# EAGLE library part MOD_FLASH (library memories)
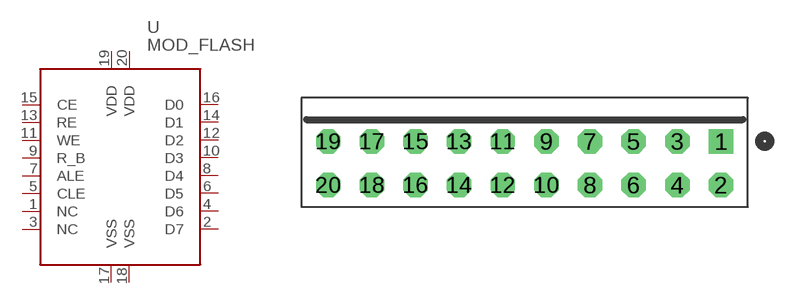
[diagram p3: symbol with the pads of MOD_FLASH; footprint MOD_FLASH]

Designator prefix -

## MOD_FLASH  [MOD_FLASH]
1  NC
2  D7
3  NC
4  D6
5  CLE
6  D5
7  ALE
8  D4
9  R_B
10  D3
11  WE
12  D2
13  RE
14  D1
15  CE
16  D0
17  VSS
18  VSS
19  VDD
20  VDD

## Footprint MOD_FLASH (pad centres in mm)
drill 0.6 pad 1.422 square: 1 11.43,3.81
drill 0.6 pad 1.422 octagon: 2 11.43,1.27; 3 8.89,3.81; 4 8.89,1.27; 5 6.35,3.81; 6 6.35,1.27; 7 3.81,3.81; 8 3.81,1.27; 9 1.27,3.81; 10 1.27,1.27; 11 -1.27,3.81; 12 -1.27,1.27; 13 -3.81,3.81; 14 -3.81,1.27; 15 -6.35,3.81; 16 -6.35,1.27; 17 -8.89,3.81; 18 -8.89,1.27; 19 -11.43,3.81; 20 -11.43,1.27